# Altium footprint library TO254P1065X485X2200-3.PcbLib: 1 footprints
Each footprint in its own frame and in the unit in brackets; x right, y up, seen from the top. Pads: shape width x height; smd on the part's side, far side on the other; paste and mask are expansions set on the pad; w line width, h text height; cw(c..) or ccw(c..) is an arc to the next point about the centre after c.
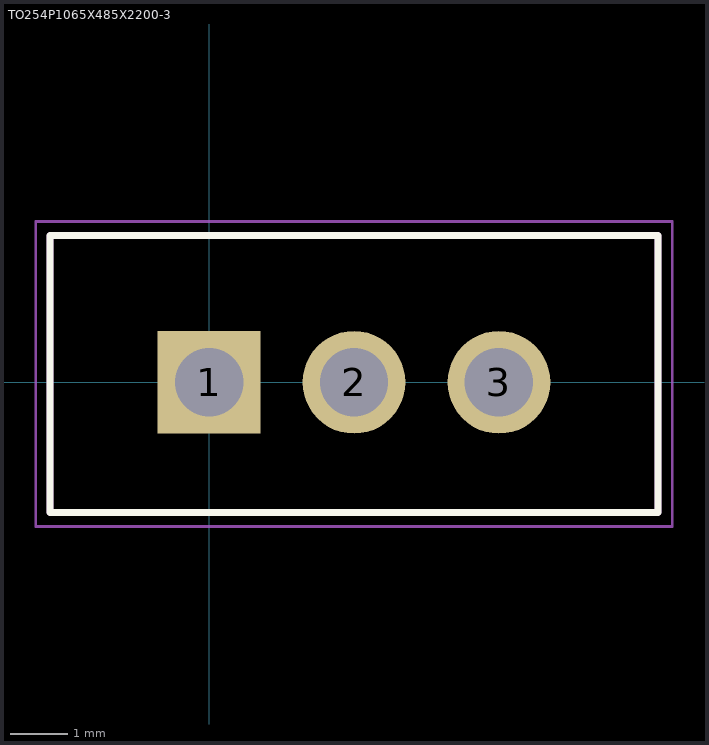
[diagram p0: the footprint, top view; thin cyan lines are the x and y axes]

## TO254P1065X485X2200-3 [mm] "Flange Mount (TO) Vertical, 2.54 mm pitch; 3 pin, 10.65 mm W X 4.85 mm H X 22.00 mm mounted height"
height 22
pads (3):
  rect 1.8x1.8 / inner round 1.8 / far side rect 1.8x1.8 hole 1.2 paste-1.8: 1(0,0)
  round 1.8 hole 1.2 paste-1.8: 2(2.54,0) 3(5.08,0)
Top Overlay:
  lines w0.12: -2.785,-2.28 7.865,-2.28 7.865,2.57 -2.785,2.57 -2.785,-2.28
Mechanical 3:
  lines w0.12: -2.785,-2.28 7.865,-2.28 7.865,2.57 -2.785,2.57 -2.785,-2.28
Mechanical 5:
  lines w0.025: -0.425,-0.315 -0.425,0.315 0.425,0.315 0.425,-0.315 -0.425,-0.315 ; 2.115,-0.315 2.115,0.315 2.965,0.315 2.965,-0.315 2.115,-0.315 ; 4.655,-0.315 4.655,0.315 5.505,0.315 5.505,-0.315 4.655,-0.315
Mechanical 7:
  circle w0.05: c0,0 r0.25
  lines w0.025: -2.785,-2.28 7.865,-2.28 7.865,2.57 -2.785,2.57 -2.785,-2.28
  lines w0.05: -0.35,0 0.35,0 ; 0,-0.35 0,0.35 ; -3.035,-2.53 8.115,-2.53 8.115,2.82 -3.035,2.82 -3.035,-2.53
3D body "TO254P1065X485X2200-3.STEP": height 22, standoff -2, extent -2.785,-2.28 7.865,2.57